# Altium schematic symbol library 继电器.SchLib: 2 symbols
Pins are listed as number, name and electrical type; pins without a type are passive.

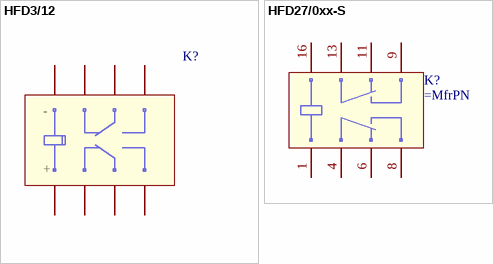
[diagram p0: symbols HFD3/12 to HFD27/0xx-S]

## HFD3/12
designator K?
pins: 1, 3, 4, 5, 8, 9, 10, 12
text: -; +

## HFD27/0xx-S
designator K?
pins: 1, 4, 6, 8, 9, 11, 13, 16